# Altium integrated library Altium_WCAP-CSGP (rev20a).IntLib: 939 symbols (part 14 of 16)
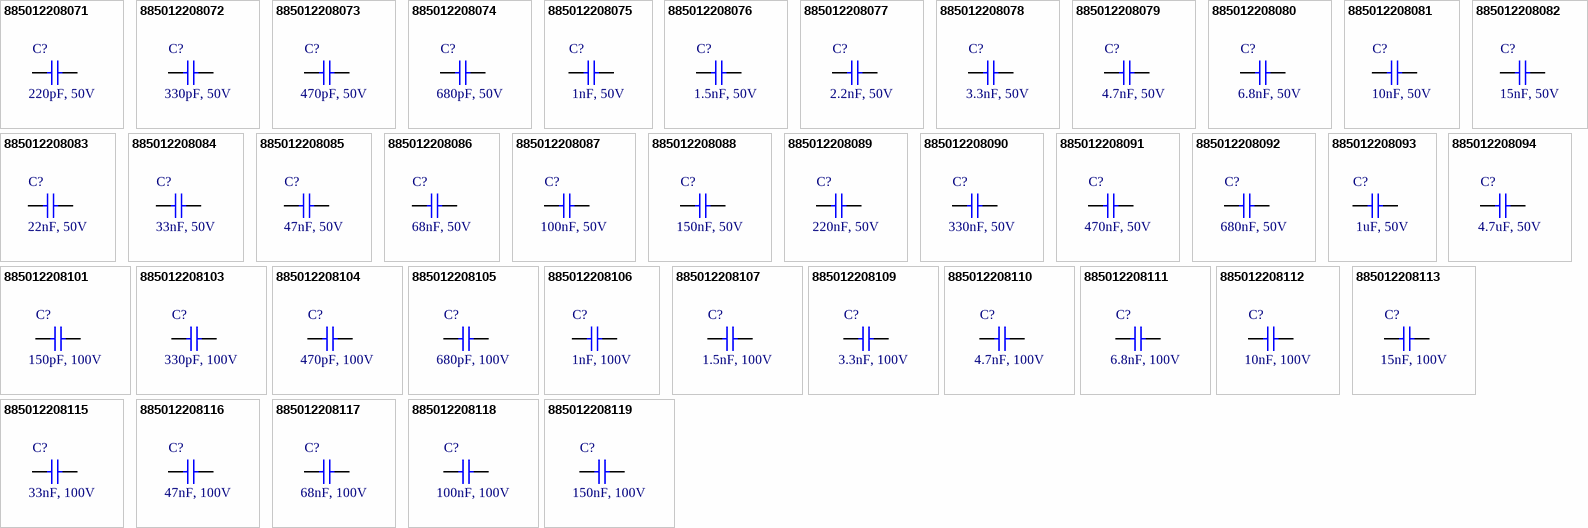
[diagram p40: symbols 885012208071 to 885012208119]

## 885012208088
designator C?, comment 150nF, 50V
WCAP-CSGP Multilayer Ceramic Chip Capacitor, General Purpose, size 1206, X7R, 150nF, 50V; Manufacturer Part Number: 885012208088; Manufacturer: Wurth Elektronik; Rated Voltage: 50VDC; Isolation Resistance: >=3.3GOhm; Capacitance Tolerance: +/-10%; Technical Reference: X7R1206154K050DFCT10000; ComponentLink1Description: Manufacturer; ComponentLink1URL: http://www.we-online.de; ComponentLink2Description: Datasheet; ComponentLink2URL: https://www.we-online.com/catalog/datasheet/885012208088.pdf; Operating Temperature: -55 to +125degC; Packaging: Tape and Reel; Published Date: May 2020; Ceramic Type: X7R; Dissipation Factor: =<2.5%; Height: 0.95mm; Mounting Technology: SMT; Size: 1206; Capacitance: 150nF
footprint WCAP-CSGP_1206_H=0.95mm
pins: 1, 2

## 885012208089
designator C?, comment 220nF, 50V
WCAP-CSGP Multilayer Ceramic Chip Capacitor, General Purpose, size 1206, X7R, 220nF, 50V; Manufacturer Part Number: 885012208089; Manufacturer: Wurth Elektronik; Rated Voltage: 50VDC; Isolation Resistance: >=2.3GOhm; Capacitance Tolerance: +/-10%; Technical Reference: X7R1206224K050DFCT10000; ComponentLink1Description: Manufacturer; ComponentLink1URL: http://www.we-online.de; ComponentLink2Description: Datasheet; ComponentLink2URL: https://www.we-online.com/catalog/datasheet/885012208089.pdf; Operating Temperature: -55 to +125degC; Packaging: Tape and Reel; Published Date: May 2020; Ceramic Type: X7R; Dissipation Factor: =<2.5%; Height: 0.95mm; Mounting Technology: SMT; Size: 1206; Capacitance: 220nF
footprint WCAP-CSGP_1206_H=0.95mm
pins: 1, 2

## 885012208090
designator C?, comment 330nF, 50V
WCAP-CSGP Multilayer Ceramic Chip Capacitor, General Purpose, size 1206, X7R, 330nF, 50V; Manufacturer Part Number: 885012208090; Manufacturer: Wurth Elektronik; Rated Voltage: 50VDC; Isolation Resistance: >=1.5GOhm; Capacitance Tolerance: +/-10%; Technical Reference: X7R1206334K050DFCT10000; ComponentLink1Description: Manufacturer; ComponentLink1URL: http://www.we-online.de; ComponentLink2Description: Datasheet; ComponentLink2URL: https://www.we-online.com/catalog/datasheet/885012208090.pdf; Operating Temperature: -55 to +125degC; Packaging: Tape and Reel; Published Date: May 2020; Ceramic Type: X7R; Dissipation Factor: =<2.5%; Height: 1.25mm; Mounting Technology: SMT; Size: 1206; Capacitance: 330nF
footprint WCAP-CSGP_1206_H=1.25mm
pins: 1, 2

## 885012208091
designator C?, comment 470nF, 50V
WCAP-CSGP Multilayer Ceramic Chip Capacitor, General Purpose, size 1206, X7R, 470nF, 50V; Manufacturer Part Number: 885012208091; Manufacturer: Wurth Elektronik; Rated Voltage: 50VDC; Isolation Resistance: >=1.1GOhm; Capacitance Tolerance: +/-10%; Technical Reference: X7R1206474K050DFCT10000; ComponentLink1Description: Manufacturer; ComponentLink1URL: http://www.we-online.de; ComponentLink2Description: Datasheet; ComponentLink2URL: https://www.we-online.com/catalog/datasheet/885012208091.pdf; Operating Temperature: -55 to +125degC; Packaging: Tape and Reel; Published Date: May 2020; Ceramic Type: X7R; Dissipation Factor: =<3%; Height: 1.6mm; Mounting Technology: SMT; Size: 1206; Capacitance: 470nF
footprint WCAP-CSGP_1206_H=1.6mm
pins: 1, 2

## 885012208092
designator C?, comment 680nF, 50V
WCAP-CSGP Multilayer Ceramic Chip Capacitor, General Purpose, size 1206, X7R, 680nF, 50V; Manufacturer Part Number: 885012208092; Manufacturer: Wurth Elektronik; Rated Voltage: 50VDC; Isolation Resistance: >=0.7GOhm; Capacitance Tolerance: +/-10%; Technical Reference: X7R1206684K050DFCT10000; ComponentLink1Description: Manufacturer; ComponentLink1URL: http://www.we-online.de; ComponentLink2Description: Datasheet; ComponentLink2URL: https://www.we-online.com/catalog/datasheet/885012208092.pdf; Operating Temperature: -55 to +125degC; Packaging: Tape and Reel; Published Date: May 2020; Ceramic Type: X7R; Dissipation Factor: =<3%; Height: 1.6mm; Mounting Technology: SMT; Size: 1206; Capacitance: 680nF
footprint WCAP-CSGP_1206_H=1.6mm
pins: 1, 2

## 885012208093
designator C?, comment 1uF, 50V
WCAP-CSGP Multilayer Ceramic Chip Capacitor, General Purpose, size 1206, X7R, 1uF, 50V; Manufacturer Part Number: 885012208093; Manufacturer: Wurth Elektronik; Rated Voltage: 50VDC; Isolation Resistance: >=0.5GOhm; Capacitance Tolerance: +/-10%; Technical Reference: X7R1206105K050DFCT10000; ComponentLink1Description: Manufacturer; ComponentLink1URL: http://www.we-online.de; ComponentLink2Description: Datasheet; ComponentLink2URL: https://www.we-online.com/catalog/datasheet/885012208093.pdf; Operating Temperature: -55 to +125degC; Packaging: Tape and Reel; Published Date: May 2020; Ceramic Type: X7R; Dissipation Factor: =<3%; Height: 1.6mm; Mounting Technology: SMT; Size: 1206; Capacitance: 1uF
footprint WCAP-CSGP_1206_H=1.6mm
pins: 1, 2

## 885012208094
designator C?, comment 4.7uF, 50V
WCAP-CSGP Multilayer Ceramic Chip Capacitor, General Purpose, size 1206, X7R, 4.7uF, 50V; Manufacturer Part Number: 885012208094; Manufacturer: Wurth Elektronik; Rated Voltage: 50VDC; Isolation Resistance: >=0.02GOhm; Capacitance Tolerance: +/-10%; Technical Reference: X7R1206475K050DFCT10000; ComponentLink1Description: Manufacturer; ComponentLink1URL: http://www.we-online.de; ComponentLink2Description: Datasheet; ComponentLink2URL: https://www.we-online.com/catalog/datasheet/885012208094.pdf; Operating Temperature: -55 to +125degC; Packaging: Tape and Reel; Published Date: May 2020; Ceramic Type: X7R; Dissipation Factor: =<10%; Height: 1.6mm; Mounting Technology: SMT; Size: 1206; Capacitance: 4.7uF
footprint WCAP-CSGP_1206_H=1.6mm
pins: 1, 2

## 885012208101
designator C?, comment 150pF, 100V
WCAP-CSGP Multilayer Ceramic Chip Capacitor, General Purpose, size 1206, X7R, 150pF, 100V; Manufacturer Part Number: 885012208101; Manufacturer: Wurth Elektronik; Rated Voltage: 100VDC; Isolation Resistance: >=10GOhm; Capacitance Tolerance: +/-10%; Technical Reference: X7R1206151K100DFCT10000; ComponentLink1Description: Manufacturer; ComponentLink1URL: http://www.we-online.de; ComponentLink2Description: Datasheet; ComponentLink2URL: https://www.we-online.com/catalog/datasheet/885012208101.pdf; Operating Temperature: -55 to +125degC; Packaging: Tape and Reel; Published Date: May 2020; Ceramic Type: X7R; Dissipation Factor: =<2.5%; Height: 0.8mm; Mounting Technology: SMT; Size: 1206; Capacitance: 150pF
footprint WCAP-CSGP_1206_H=0.8mm
pins: 1, 2

## 885012208103
designator C?, comment 330pF, 100V
WCAP-CSGP Multilayer Ceramic Chip Capacitor, General Purpose, size 1206, X7R, 330pF, 100V; Manufacturer Part Number: 885012208103; Manufacturer: Wurth Elektronik; Rated Voltage: 100VDC; Isolation Resistance: >=10GOhm; Capacitance Tolerance: +/-10%; Technical Reference: X7R1206331K100DFCT10000; ComponentLink1Description: Manufacturer; ComponentLink1URL: http://www.we-online.de; ComponentLink2Description: Datasheet; ComponentLink2URL: https://www.we-online.com/catalog/datasheet/885012208103.pdf; Operating Temperature: -55 to +125degC; Packaging: Tape and Reel; Published Date: May 2020; Ceramic Type: X7R; Dissipation Factor: =<2.5%; Height: 0.8mm; Mounting Technology: SMT; Size: 1206; Capacitance: 330pF
footprint WCAP-CSGP_1206_H=0.8mm
pins: 1, 2

## 885012208104
designator C?, comment 470pF, 100V
WCAP-CSGP Multilayer Ceramic Chip Capacitor, General Purpose, size 1206, X7R, 470pF, 100V; Manufacturer Part Number: 885012208104; Manufacturer: Wurth Elektronik; Rated Voltage: 100VDC; Isolation Resistance: >=10GOhm; Capacitance Tolerance: +/-10%; Technical Reference: X7R1206471K100DFCT10000; ComponentLink1Description: Manufacturer; ComponentLink1URL: http://www.we-online.de; ComponentLink2Description: Datasheet; ComponentLink2URL: https://www.we-online.com/catalog/datasheet/885012208104.pdf; Operating Temperature: -55 to +125degC; Packaging: Tape and Reel; Published Date: May 2020; Ceramic Type: X7R; Dissipation Factor: =<2.5%; Height: 0.8mm; Mounting Technology: SMT; Size: 1206; Capacitance: 470pF
footprint WCAP-CSGP_1206_H=0.8mm
pins: 1, 2

## 885012208105
designator C?, comment 680pF, 100V
WCAP-CSGP Multilayer Ceramic Chip Capacitor, General Purpose, size 1206, X7R, 680pF, 100V; Manufacturer Part Number: 885012208105; Manufacturer: Wurth Elektronik; Rated Voltage: 100VDC; Isolation Resistance: >=10GOhm; Capacitance Tolerance: +/-10%; Technical Reference: X7R1206681K100DFCT10000; ComponentLink1Description: Manufacturer; ComponentLink1URL: http://www.we-online.de; ComponentLink2Description: Datasheet; ComponentLink2URL: https://www.we-online.com/catalog/datasheet/885012208105.pdf; Operating Temperature: -55 to +125degC; Packaging: Tape and Reel; Published Date: May 2020; Ceramic Type: X7R; Dissipation Factor: =<2.5%; Height: 0.8mm; Mounting Technology: SMT; Size: 1206; Capacitance: 680pF
footprint WCAP-CSGP_1206_H=0.8mm
pins: 1, 2

## 885012208106
designator C?, comment 1nF, 100V
WCAP-CSGP Multilayer Ceramic Chip Capacitor, General Purpose, size 1206, X7R, 1nF, 100V; Manufacturer Part Number: 885012208106; Manufacturer: Wurth Elektronik; Rated Voltage: 100VDC; Isolation Resistance: >=10GOhm; Capacitance Tolerance: +/-10%; Technical Reference: X7R1206102K100DFCT10000; ComponentLink1Description: Manufacturer; ComponentLink1URL: http://www.we-online.de; ComponentLink2Description: Datasheet; ComponentLink2URL: https://www.we-online.com/catalog/datasheet/885012208106.pdf; Operating Temperature: -55 to +125degC; Packaging: Tape and Reel; Published Date: May 2020; Ceramic Type: X7R; Dissipation Factor: =<2.5%; Height: 0.8mm; Mounting Technology: SMT; Size: 1206; Capacitance: 1nF
footprint WCAP-CSGP_1206_H=0.8mm
pins: 1, 2

## 885012208107
designator C?, comment 1.5nF, 100V
WCAP-CSGP Multilayer Ceramic Chip Capacitor, General Purpose, size 1206, X7R, 1.5nF, 100V; Manufacturer Part Number: 885012208107; Manufacturer: Wurth Elektronik; Rated Voltage: 100VDC; Isolation Resistance: >=10GOhm; Capacitance Tolerance: +/-10%; Technical Reference: X7R1206152K100DFCT10000; ComponentLink1Description: Manufacturer; ComponentLink1URL: http://www.we-online.de; ComponentLink2Description: Datasheet; ComponentLink2URL: https://www.we-online.com/catalog/datasheet/885012208107.pdf; Operating Temperature: -55 to +125degC; Packaging: Tape and Reel; Published Date: May 2020; Ceramic Type: X7R; Dissipation Factor: =<2.5%; Height: 0.8mm; Mounting Technology: SMT; Size: 1206; Capacitance: 1.5nF
footprint WCAP-CSGP_1206_H=0.8mm
pins: 1, 2

## 885012208109
designator C?, comment 3.3nF, 100V
WCAP-CSGP Multilayer Ceramic Chip Capacitor, General Purpose, size 1206, X7R, 3.3nF, 100V; Manufacturer Part Number: 885012208109; Manufacturer: Wurth Elektronik; Rated Voltage: 100VDC; Isolation Resistance: >=10GOhm; Capacitance Tolerance: +/-10%; Technical Reference: X7R1206332K100DFCT10000; ComponentLink1Description: Manufacturer; ComponentLink1URL: http://www.we-online.de; ComponentLink2Description: Datasheet; ComponentLink2URL: https://www.we-online.com/catalog/datasheet/885012208109.pdf; Operating Temperature: -55 to +125degC; Packaging: Tape and Reel; Published Date: May 2020; Ceramic Type: X7R; Dissipation Factor: =<2.5%; Height: 0.8mm; Mounting Technology: SMT; Size: 1206; Capacitance: 3.3nF
footprint WCAP-CSGP_1206_H=0.8mm
pins: 1, 2

## 885012208110
designator C?, comment 4.7nF, 100V
WCAP-CSGP Multilayer Ceramic Chip Capacitor, General Purpose, size 1206, X7R, 4.7nF, 100V; Manufacturer Part Number: 885012208110; Manufacturer: Wurth Elektronik; Rated Voltage: 100VDC; Isolation Resistance: >=10GOhm; Capacitance Tolerance: +/-10%; Technical Reference: X7R1206472K100DFCT10000; ComponentLink1Description: Manufacturer; ComponentLink1URL: http://www.we-online.de; ComponentLink2Description: Datasheet; ComponentLink2URL: https://www.we-online.com/catalog/datasheet/885012208110.pdf; Operating Temperature: -55 to +125degC; Packaging: Tape and Reel; Published Date: May 2020; Ceramic Type: X7R; Dissipation Factor: =<2.5%; Height: 0.8mm; Mounting Technology: SMT; Size: 1206; Capacitance: 4.7nF
footprint WCAP-CSGP_1206_H=0.8mm
pins: 1, 2

## 885012208111
designator C?, comment 6.8nF, 100V
WCAP-CSGP Multilayer Ceramic Chip Capacitor, General Purpose, size 1206, X7R, 6.8nF, 100V; Manufacturer Part Number: 885012208111; Manufacturer: Wurth Elektronik; Rated Voltage: 100VDC; Isolation Resistance: >=10GOhm; Capacitance Tolerance: +/-10%; Technical Reference: X7R1206682K100DFCT10000; ComponentLink1Description: Manufacturer; ComponentLink1URL: http://www.we-online.de; ComponentLink2Description: Datasheet; ComponentLink2URL: https://www.we-online.com/catalog/datasheet/885012208111.pdf; Operating Temperature: -55 to +125degC; Packaging: Tape and Reel; Published Date: May 2020; Ceramic Type: X7R; Dissipation Factor: =<2.5%; Height: 0.8mm; Mounting Technology: SMT; Size: 1206; Capacitance: 6.8nF
footprint WCAP-CSGP_1206_H=0.8mm
pins: 1, 2

## 885012208112
designator C?, comment 10nF, 100V
WCAP-CSGP Multilayer Ceramic Chip Capacitor, General Purpose, size 1206, X7R, 10nF, 100V; Manufacturer Part Number: 885012208112; Manufacturer: Wurth Elektronik; Rated Voltage: 100VDC; Isolation Resistance: >=10GOhm; Capacitance Tolerance: +/-10%; Technical Reference: X7R1206103K100DFCT10000; ComponentLink1Description: Manufacturer; ComponentLink1URL: http://www.we-online.de; ComponentLink2Description: Datasheet; ComponentLink2URL: https://www.we-online.com/catalog/datasheet/885012208112.pdf; Operating Temperature: -55 to +125degC; Packaging: Tape and Reel; Published Date: May 2020; Ceramic Type: X7R; Dissipation Factor: =<2.5%; Height: 0.8mm; Mounting Technology: SMT; Size: 1206; Capacitance: 10nF
footprint WCAP-CSGP_1206_H=0.8mm
pins: 1, 2

## 885012208113
designator C?, comment 15nF, 100V
WCAP-CSGP Multilayer Ceramic Chip Capacitor, General Purpose, size 1206, X7R, 15nF, 100V; Manufacturer Part Number: 885012208113; Manufacturer: Wurth Elektronik; Rated Voltage: 100VDC; Isolation Resistance: >=6.7GOhm; Capacitance Tolerance: +/-10%; Technical Reference: X7R1206153K100DFCT10000; ComponentLink1Description: Manufacturer; ComponentLink1URL: http://www.we-online.de; ComponentLink2Description: Datasheet; ComponentLink2URL: https://www.we-online.com/catalog/datasheet/885012208113.pdf; Operating Temperature: -55 to +125degC; Packaging: Tape and Reel; Published Date: May 2020; Ceramic Type: X7R; Dissipation Factor: =<2.5%; Height: 0.8mm; Mounting Technology: SMT; Size: 1206; Capacitance: 15nF
footprint WCAP-CSGP_1206_H=0.8mm
pins: 1, 2

## 885012208115
designator C?, comment 33nF, 100V
WCAP-CSGP Multilayer Ceramic Chip Capacitor, General Purpose, size 1206, X7R, 33nF, 100V; Manufacturer Part Number: 885012208115; Manufacturer: Wurth Elektronik; Rated Voltage: 100VDC; Isolation Resistance: >=3GOhm; Capacitance Tolerance: +/-10%; Technical Reference: X7R1206333K100DFCT10000; ComponentLink1Description: Manufacturer; ComponentLink1URL: http://www.we-online.de; ComponentLink2Description: Datasheet; ComponentLink2URL: https://www.we-online.com/catalog/datasheet/885012208115.pdf; Operating Temperature: -55 to +125degC; Packaging: Tape and Reel; Published Date: May 2020; Ceramic Type: X7R; Dissipation Factor: =<2.5%; Height: 0.8mm; Mounting Technology: SMT; Size: 1206; Capacitance: 33nF
footprint WCAP-CSGP_1206_H=0.8mm
pins: 1, 2

## 885012208116
designator C?, comment 47nF, 100V
WCAP-CSGP Multilayer Ceramic Chip Capacitor, General Purpose, size 1206, X7R, 47nF, 100V; Manufacturer Part Number: 885012208116; Manufacturer: Wurth Elektronik; Rated Voltage: 100VDC; Isolation Resistance: >=2.1GOhm; Capacitance Tolerance: +/-10%; Technical Reference: X7R1206473K100DFCT10000; ComponentLink1Description: Manufacturer; ComponentLink1URL: http://www.we-online.de; ComponentLink2Description: Datasheet; ComponentLink2URL: https://www.we-online.com/catalog/datasheet/885012208116.pdf; Operating Temperature: -55 to +125degC; Packaging: Tape and Reel; Published Date: May 2020; Ceramic Type: X7R; Dissipation Factor: =<2.5%; Height: 0.8mm; Mounting Technology: SMT; Size: 1206; Capacitance: 47nF
footprint WCAP-CSGP_1206_H=0.8mm
pins: 1, 2

## 885012208117
designator C?, comment 68nF, 100V
WCAP-CSGP Multilayer Ceramic Chip Capacitor, General Purpose, size 1206, X7R, 68nF, 100V; Manufacturer Part Number: 885012208117; Manufacturer: Wurth Elektronik; Rated Voltage: 100VDC; Isolation Resistance: >=1.5GOhm; Capacitance Tolerance: +/-10%; Technical Reference: X7R1206683K100DFCT10000; ComponentLink1Description: Manufacturer; ComponentLink1URL: http://www.we-online.de; ComponentLink2Description: Datasheet; ComponentLink2URL: https://www.we-online.com/catalog/datasheet/885012208117.pdf; Operating Temperature: -55 to +125degC; Packaging: Tape and Reel; Published Date: May 2020; Ceramic Type: X7R; Dissipation Factor: =<2.5%; Height: 0.8mm; Mounting Technology: SMT; Size: 1206; Capacitance: 68nF
footprint WCAP-CSGP_1206_H=0.8mm
pins: 1, 2

## 885012208118
designator C?, comment 100nF, 100V
WCAP-CSGP Multilayer Ceramic Chip Capacitor, General Purpose, size 1206, X7R, 100nF, 100V; Manufacturer Part Number: 885012208118; Manufacturer: Wurth Elektronik; Rated Voltage: 100VDC; Isolation Resistance: >=1GOhm; Capacitance Tolerance: +/-10%; Technical Reference: X7R1206104K100DFCT10000; ComponentLink1Description: Manufacturer; ComponentLink1URL: http://www.we-online.de; ComponentLink2Description: Datasheet; ComponentLink2URL: https://www.we-online.com/catalog/datasheet/885012208118.pdf; Operating Temperature: -55 to +125degC; Packaging: Tape and Reel; Published Date: May 2020; Ceramic Type: X7R; Dissipation Factor: =<2.5%; Height: 1.25mm; Mounting Technology: SMT; Size: 1206; Capacitance: 100nF
footprint WCAP-CSGP_1206_H=1.25mm
pins: 1, 2

## 885012208119
designator C?, comment 150nF, 100V
WCAP-CSGP Multilayer Ceramic Chip Capacitor, General Purpose, size 1206, X7R, 150nF, 100V; Manufacturer Part Number: 885012208119; Manufacturer: Wurth Elektronik; Rated Voltage: 100VDC; Isolation Resistance: >=0.7GOhm; Capacitance Tolerance: +/-10%; Technical Reference: X7R1206154K100DFCT10000; ComponentLink1Description: Manufacturer; ComponentLink1URL: http://www.we-online.de; ComponentLink2Description: Datasheet; ComponentLink2URL: https://www.we-online.com/catalog/datasheet/885012208119.pdf; Operating Temperature: -55 to +125degC; Packaging: Tape and Reel; Published Date: May 2020; Ceramic Type: X7R; Dissipation Factor: =<2.5%; Height: 1.6mm; Mounting Technology: SMT; Size: 1206; Capacitance: 150nF
footprint WCAP-CSGP_1206_H=1.6mm
pins: 1, 2

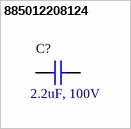
[diagram p22: symbol 885012208124]

## 885012208124
designator C?, comment 2.2uF, 100V
WCAP-CSGP Multilayer Ceramic Chip Capacitor, General Purpose, size 1206, X7R, 2.2uF, 100V; Manufacturer Part Number: 885012208124; Manufacturer: Wurth Elektronik; Rated Voltage: 100VDC; Isolation Resistance: >=0.05GOhm; Capacitance Tolerance: +/-10%; Technical Reference: X7R1206225K100DFCT10000; ComponentLink1Description: Manufacturer; ComponentLink1URL: http://www.we-online.de; ComponentLink2Description: Datasheet; ComponentLink2URL: https://www.we-online.com/catalog/datasheet/885012208124.pdf; Operating Temperature: -55 to +125degC; Packaging: Tape and Reel; Published Date: May 2020; Ceramic Type: X7R; Dissipation Factor: =<5%; Height: 1.6mm; Mounting Technology: SMT; Size: 1206; Capacitance: 2.2uF
footprint WCAP-CSGP_1206_H=1.6mm
pins: 1, 2


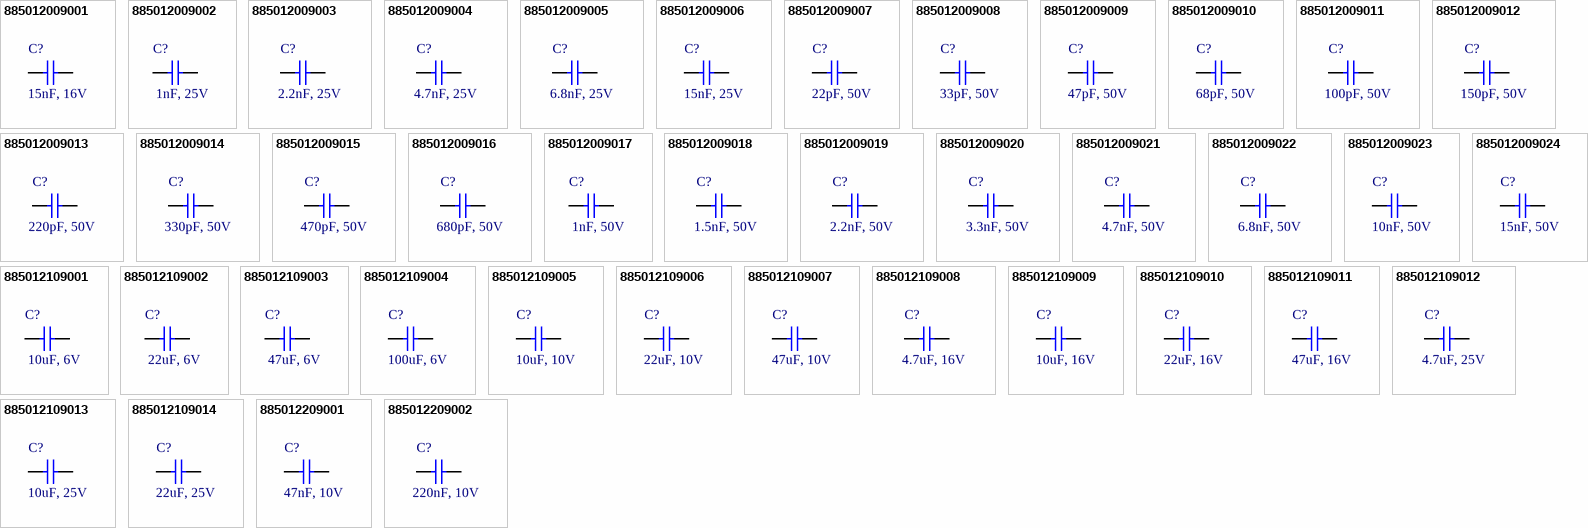
[diagram p23: symbols 885012009001 to 885012209002]

## 885012009001
designator C?, comment 15nF, 16V
WCAP-CSGP Multilayer Ceramic Chip Capacitor, General Purpose, size 1210, NP0, 15nF, 16V; Manufacturer Part Number: 885012009001; Manufacturer: Wurth Elektronik; Rated Voltage: 16VDC; Isolation Resistance: >=10GOhm; Capacitance Tolerance: +/-5%; Dissipation Factor: Q>=1000; Technical Reference: NP01210153J016DFCT10000; ComponentLink1Description: Manufacturer; ComponentLink1URL: http://www.we-online.de; ComponentLink2Description: Datasheet; ComponentLink2URL: https://www.we-online.com/catalog/datasheet/885012009001.pdf; Operating Temperature: -55 to +125degC; Packaging: Tape and Reel; Published Date: May 2020; Ceramic Type: NP0; Height: 0.95mm; Mounting Technology: SMT; Size: 1210; Capacitance: 15nF
footprint WCAP-CSGP_1210_H=0.95mm
pins: 1, 2

## 885012009002
designator C?, comment 1nF, 25V
WCAP-CSGP Multilayer Ceramic Chip Capacitor, General Purpose, size 1210, NP0, 1nF, 25V; Manufacturer Part Number: 885012009002; Manufacturer: Wurth Elektronik; Rated Voltage: 25VDC; Isolation Resistance: >=10GOhm; Capacitance Tolerance: +/-5%; Dissipation Factor: Q>=1000; Technical Reference: NP01210102J025DFCT10000; ComponentLink1Description: Manufacturer; ComponentLink1URL: http://www.we-online.de; ComponentLink2Description: Datasheet; ComponentLink2URL: https://www.we-online.com/catalog/datasheet/885012009002.pdf; Operating Temperature: -55 to +125degC; Packaging: Tape and Reel; Published Date: May 2020; Ceramic Type: NP0; Height: 0.95mm; Mounting Technology: SMT; Size: 1210; Capacitance: 1nF
footprint WCAP-CSGP_1210_H=0.95mm
pins: 1, 2

## 885012009003
designator C?, comment 2.2nF, 25V
WCAP-CSGP Multilayer Ceramic Chip Capacitor, General Purpose, size 1210, NP0, 2.2nF, 25V; Manufacturer Part Number: 885012009003; Manufacturer: Wurth Elektronik; Rated Voltage: 25VDC; Isolation Resistance: >=10GOhm; Capacitance Tolerance: +/-5%; Dissipation Factor: Q>=1000; Technical Reference: NP01210222J025DFCT10000; ComponentLink1Description: Manufacturer; ComponentLink1URL: http://www.we-online.de; ComponentLink2Description: Datasheet; ComponentLink2URL: https://www.we-online.com/catalog/datasheet/885012009003.pdf; Operating Temperature: -55 to +125degC; Packaging: Tape and Reel; Published Date: May 2020; Ceramic Type: NP0; Height: 0.95mm; Mounting Technology: SMT; Size: 1210; Capacitance: 2.2nF
footprint WCAP-CSGP_1210_H=0.95mm
pins: 1, 2

## 885012009004
designator C?, comment 4.7nF, 25V
WCAP-CSGP Multilayer Ceramic Chip Capacitor, General Purpose, size 1210, NP0, 4.7nF, 25V; Manufacturer Part Number: 885012009004; Manufacturer: Wurth Elektronik; Rated Voltage: 25VDC; Isolation Resistance: >=10GOhm; Capacitance Tolerance: +/-5%; Dissipation Factor: Q>=1000; Technical Reference: NP01210472J025DFCT10000; ComponentLink1Description: Manufacturer; ComponentLink1URL: http://www.we-online.de; ComponentLink2Description: Datasheet; ComponentLink2URL: https://www.we-online.com/catalog/datasheet/885012009004.pdf; Operating Temperature: -55 to +125degC; Packaging: Tape and Reel; Published Date: May 2020; Ceramic Type: NP0; Height: 0.95mm; Mounting Technology: SMT; Size: 1210; Capacitance: 4.7nF
footprint WCAP-CSGP_1210_H=0.95mm
pins: 1, 2

## 885012009005
designator C?, comment 6.8nF, 25V
WCAP-CSGP Multilayer Ceramic Chip Capacitor, General Purpose, size 1210, NP0, 6.8nF, 25V; Manufacturer Part Number: 885012009005; Manufacturer: Wurth Elektronik; Rated Voltage: 25VDC; Isolation Resistance: >=10GOhm; Capacitance Tolerance: +/-5%; Dissipation Factor: Q>=1000; Technical Reference: NP01210682J025DFCT10000; ComponentLink1Description: Manufacturer; ComponentLink1URL: http://www.we-online.de; ComponentLink2Description: Datasheet; ComponentLink2URL: https://www.we-online.com/catalog/datasheet/885012009005.pdf; Operating Temperature: -55 to +125degC; Packaging: Tape and Reel; Published Date: May 2020; Ceramic Type: NP0; Height: 0.95mm; Mounting Technology: SMT; Size: 1210; Capacitance: 6.8nF
footprint WCAP-CSGP_1210_H=0.95mm
pins: 1, 2

## 885012009006
designator C?, comment 15nF, 25V
WCAP-CSGP Multilayer Ceramic Chip Capacitor, General Purpose, size 1210, NP0, 15nF, 25V; Manufacturer Part Number: 885012009006; Manufacturer: Wurth Elektronik; Rated Voltage: 25VDC; Isolation Resistance: >=10GOhm; Capacitance Tolerance: +/-5%; Dissipation Factor: Q>=1000; Technical Reference: NP01210153J025DFCT10000; ComponentLink1Description: Manufacturer; ComponentLink1URL: http://www.we-online.de; ComponentLink2Description: Datasheet; ComponentLink2URL: https://www.we-online.com/catalog/datasheet/885012009006.pdf; Operating Temperature: -55 to +125degC; Packaging: Tape and Reel; Published Date: May 2020; Ceramic Type: NP0; Height: 1.25mm; Mounting Technology: SMT; Size: 1210; Capacitance: 15nF
footprint WCAP-CSGP_1210_H=1.25mm
pins: 1, 2

## 885012009007
designator C?, comment 22pF, 50V
WCAP-CSGP Multilayer Ceramic Chip Capacitor, General Purpose, size 1210, NP0, 22pF, 50V; Manufacturer Part Number: 885012009007; Manufacturer: Wurth Elektronik; Rated Voltage: 50VDC; Isolation Resistance: >=10GOhm; Capacitance Tolerance: +/-5%; Dissipation Factor: Q>=400+20C; Technical Reference: NP01210220J050DFCT10000; ComponentLink1Description: Manufacturer; ComponentLink1URL: http://www.we-online.de; ComponentLink2Description: Datasheet; ComponentLink2URL: https://www.we-online.com/catalog/datasheet/885012009007.pdf; Operating Temperature: -55 to +125degC; Packaging: Tape and Reel; Published Date: May 2020; Ceramic Type: NP0; Height: 0.95mm; Mounting Technology: SMT; Size: 1210; Capacitance: 22pF
footprint WCAP-CSGP_1210_H=0.95mm
pins: 1, 2

## 885012009008
designator C?, comment 33pF, 50V
WCAP-CSGP Multilayer Ceramic Chip Capacitor, General Purpose, size 1210, NP0, 33pF, 50V; Manufacturer Part Number: 885012009008; Manufacturer: Wurth Elektronik; Rated Voltage: 50VDC; Isolation Resistance: >=10GOhm; Capacitance Tolerance: +/-5%; Dissipation Factor: Q>=1000; Technical Reference: NP01210330J050DFCT10000; ComponentLink1Description: Manufacturer; ComponentLink1URL: http://www.we-online.de; ComponentLink2Description: Datasheet; ComponentLink2URL: https://www.we-online.com/catalog/datasheet/885012009008.pdf; Operating Temperature: -55 to +125degC; Packaging: Tape and Reel; Published Date: May 2020; Ceramic Type: NP0; Height: 0.95mm; Mounting Technology: SMT; Size: 1210; Capacitance: 33pF
footprint WCAP-CSGP_1210_H=0.95mm
pins: 1, 2

## 885012009009
designator C?, comment 47pF, 50V
WCAP-CSGP Multilayer Ceramic Chip Capacitor, General Purpose, size 1210, NP0, 47pF, 50V; Manufacturer Part Number: 885012009009; Manufacturer: Wurth Elektronik; Rated Voltage: 50VDC; Isolation Resistance: >=10GOhm; Capacitance Tolerance: +/-5%; Dissipation Factor: Q>=1000; Technical Reference: NP01210470J050DFCT10000; ComponentLink1Description: Manufacturer; ComponentLink1URL: http://www.we-online.de; ComponentLink2Description: Datasheet; ComponentLink2URL: https://www.we-online.com/catalog/datasheet/885012009009.pdf; Operating Temperature: -55 to +125degC; Packaging: Tape and Reel; Published Date: May 2020; Ceramic Type: NP0; Height: 0.95mm; Mounting Technology: SMT; Size: 1210; Capacitance: 47pF
footprint WCAP-CSGP_1210_H=0.95mm
pins: 1, 2

## 885012009010
designator C?, comment 68pF, 50V
WCAP-CSGP Multilayer Ceramic Chip Capacitor, General Purpose, size 1210, NP0, 68pF, 50V; Manufacturer Part Number: 885012009010; Manufacturer: Wurth Elektronik; Rated Voltage: 50VDC; Isolation Resistance: >=10GOhm; Capacitance Tolerance: +/-5%; Dissipation Factor: Q>=1000; Technical Reference: NP01210680J050DFCT10000; ComponentLink1Description: Manufacturer; ComponentLink1URL: http://www.we-online.de; ComponentLink2Description: Datasheet; ComponentLink2URL: https://www.we-online.com/catalog/datasheet/885012009010.pdf; Operating Temperature: -55 to +125degC; Packaging: Tape and Reel; Published Date: May 2020; Ceramic Type: NP0; Height: 0.95mm; Mounting Technology: SMT; Size: 1210; Capacitance: 68pF
footprint WCAP-CSGP_1210_H=0.95mm
pins: 1, 2

## 885012009011
designator C?, comment 100pF, 50V
WCAP-CSGP Multilayer Ceramic Chip Capacitor, General Purpose, size 1210, NP0, 100pF, 50V; Manufacturer Part Number: 885012009011; Manufacturer: Wurth Elektronik; Rated Voltage: 50VDC; Isolation Resistance: >=10GOhm; Capacitance Tolerance: +/-5%; Dissipation Factor: Q>=1000; Technical Reference: NP01210101J050DFCT10000; ComponentLink1Description: Manufacturer; ComponentLink1URL: http://www.we-online.de; ComponentLink2Description: Datasheet; ComponentLink2URL: https://www.we-online.com/catalog/datasheet/885012009011.pdf; Operating Temperature: -55 to +125degC; Packaging: Tape and Reel; Published Date: May 2020; Ceramic Type: NP0; Height: 0.95mm; Mounting Technology: SMT; Size: 1210; Capacitance: 100pF
footprint WCAP-CSGP_1210_H=0.95mm
pins: 1, 2

## 885012009012
designator C?, comment 150pF, 50V
WCAP-CSGP Multilayer Ceramic Chip Capacitor, General Purpose, size 1210, NP0, 150pF, 50V; Manufacturer Part Number: 885012009012; Manufacturer: Wurth Elektronik; Rated Voltage: 50VDC; Isolation Resistance: >=10GOhm; Capacitance Tolerance: +/-5%; Dissipation Factor: Q>=1000; Technical Reference: NP01210151J050DFCT10000; ComponentLink1Description: Manufacturer; ComponentLink1URL: http://www.we-online.de; ComponentLink2Description: Datasheet; ComponentLink2URL: https://www.we-online.com/catalog/datasheet/885012009012.pdf; Operating Temperature: -55 to +125degC; Packaging: Tape and Reel; Published Date: May 2020; Ceramic Type: NP0; Height: 0.95mm; Mounting Technology: SMT; Size: 1210; Capacitance: 150pF
footprint WCAP-CSGP_1210_H=0.95mm
pins: 1, 2

## 885012009013
designator C?, comment 220pF, 50V
WCAP-CSGP Multilayer Ceramic Chip Capacitor, General Purpose, size 1210, NP0, 220pF, 50V; Manufacturer Part Number: 885012009013; Manufacturer: Wurth Elektronik; Rated Voltage: 50VDC; Isolation Resistance: >=10GOhm; Capacitance Tolerance: +/-5%; Dissipation Factor: Q>=1000; Technical Reference: NP01210221J050DFCT10000; ComponentLink1Description: Manufacturer; ComponentLink1URL: http://www.we-online.de; ComponentLink2Description: Datasheet; ComponentLink2URL: https://www.we-online.com/catalog/datasheet/885012009013.pdf; Operating Temperature: -55 to +125degC; Packaging: Tape and Reel; Published Date: May 2020; Ceramic Type: NP0; Height: 0.95mm; Mounting Technology: SMT; Size: 1210; Capacitance: 220pF
footprint WCAP-CSGP_1210_H=0.95mm
pins: 1, 2

## 885012009014
designator C?, comment 330pF, 50V
WCAP-CSGP Multilayer Ceramic Chip Capacitor, General Purpose, size 1210, NP0, 330pF, 50V; Manufacturer Part Number: 885012009014; Manufacturer: Wurth Elektronik; Rated Voltage: 50VDC; Isolation Resistance: >=10GOhm; Capacitance Tolerance: +/-5%; Dissipation Factor: Q>=1000; Technical Reference: NP01210331J050DFCT10000; ComponentLink1Description: Manufacturer; ComponentLink1URL: http://www.we-online.de; ComponentLink2Description: Datasheet; ComponentLink2URL: https://www.we-online.com/catalog/datasheet/885012009014.pdf; Operating Temperature: -55 to +125degC; Packaging: Tape and Reel; Published Date: May 2020; Ceramic Type: NP0; Height: 0.95mm; Mounting Technology: SMT; Size: 1210; Capacitance: 330pF
footprint WCAP-CSGP_1210_H=0.95mm
pins: 1, 2

## 885012009015
designator C?, comment 470pF, 50V
WCAP-CSGP Multilayer Ceramic Chip Capacitor, General Purpose, size 1210, NP0, 470pF, 50V; Manufacturer Part Number: 885012009015; Manufacturer: Wurth Elektronik; Rated Voltage: 50VDC; Isolation Resistance: >=10GOhm; Capacitance Tolerance: +/-5%; Dissipation Factor: Q>=1000; Technical Reference: NP01210471J050DFCT10000; ComponentLink1Description: Manufacturer; ComponentLink1URL: http://www.we-online.de; ComponentLink2Description: Datasheet; ComponentLink2URL: https://www.we-online.com/catalog/datasheet/885012009015.pdf; Operating Temperature: -55 to +125degC; Packaging: Tape and Reel; Published Date: May 2020; Ceramic Type: NP0; Height: 0.95mm; Mounting Technology: SMT; Size: 1210; Capacitance: 470pF
footprint WCAP-CSGP_1210_H=0.95mm
pins: 1, 2

## 885012009016
designator C?, comment 680pF, 50V
WCAP-CSGP Multilayer Ceramic Chip Capacitor, General Purpose, size 1210, NP0, 680pF, 50V; Manufacturer Part Number: 885012009016; Manufacturer: Wurth Elektronik; Rated Voltage: 50VDC; Isolation Resistance: >=10GOhm; Capacitance Tolerance: +/-5%; Dissipation Factor: Q>=1000; Technical Reference: NP01210681J050DFCT10000; ComponentLink1Description: Manufacturer; ComponentLink1URL: http://www.we-online.de; ComponentLink2Description: Datasheet; ComponentLink2URL: https://www.we-online.com/catalog/datasheet/885012009016.pdf; Operating Temperature: -55 to +125degC; Packaging: Tape and Reel; Published Date: May 2020; Ceramic Type: NP0; Height: 0.95mm; Mounting Technology: SMT; Size: 1210; Capacitance: 680pF
footprint WCAP-CSGP_1210_H=0.95mm
pins: 1, 2

## 885012009017
designator C?, comment 1nF, 50V
WCAP-CSGP Multilayer Ceramic Chip Capacitor, General Purpose, size 1210, NP0, 1nF, 50V; Manufacturer Part Number: 885012009017; Manufacturer: Wurth Elektronik; Rated Voltage: 50VDC; Isolation Resistance: >=10GOhm; Capacitance Tolerance: +/-5%; Dissipation Factor: Q>=1000; Technical Reference: NP01210102J050DFCT10000; ComponentLink1Description: Manufacturer; ComponentLink1URL: http://www.we-online.de; ComponentLink2Description: Datasheet; ComponentLink2URL: https://www.we-online.com/catalog/datasheet/885012009017.pdf; Operating Temperature: -55 to +125degC; Packaging: Tape and Reel; Published Date: May 2020; Ceramic Type: NP0; Height: 0.95mm; Mounting Technology: SMT; Size: 1210; Capacitance: 1nF
footprint WCAP-CSGP_1210_H=0.95mm
pins: 1, 2

## 885012009018
designator C?, comment 1.5nF, 50V
WCAP-CSGP Multilayer Ceramic Chip Capacitor, General Purpose, size 1210, NP0, 1.5nF, 50V; Manufacturer Part Number: 885012009018; Manufacturer: Wurth Elektronik; Rated Voltage: 50VDC; Isolation Resistance: >=10GOhm; Capacitance Tolerance: +/-5%; Dissipation Factor: Q>=1000; Technical Reference: NP01210152J050DFCT10000; ComponentLink1Description: Manufacturer; ComponentLink1URL: http://www.we-online.de; ComponentLink2Description: Datasheet; ComponentLink2URL: https://www.we-online.com/catalog/datasheet/885012009018.pdf; Operating Temperature: -55 to +125degC; Packaging: Tape and Reel; Published Date: May 2020; Ceramic Type: NP0; Height: 0.95mm; Mounting Technology: SMT; Size: 1210; Capacitance: 1.5nF
footprint WCAP-CSGP_1210_H=0.95mm
pins: 1, 2

## 885012009019
designator C?, comment 2.2nF, 50V
WCAP-CSGP Multilayer Ceramic Chip Capacitor, General Purpose, size 1210, NP0, 2.2nF, 50V; Manufacturer Part Number: 885012009019; Manufacturer: Wurth Elektronik; Rated Voltage: 50VDC; Isolation Resistance: >=10GOhm; Capacitance Tolerance: +/-5%; Dissipation Factor: Q>=1000; Technical Reference: NP01210222J050DFCT10000; ComponentLink1Description: Manufacturer; ComponentLink1URL: http://www.we-online.de; ComponentLink2Description: Datasheet; ComponentLink2URL: https://www.we-online.com/catalog/datasheet/885012009019.pdf; Operating Temperature: -55 to +125degC; Packaging: Tape and Reel; Published Date: May 2020; Ceramic Type: NP0; Height: 0.95mm; Mounting Technology: SMT; Size: 1210; Capacitance: 2.2nF
footprint WCAP-CSGP_1210_H=0.95mm
pins: 1, 2

## 885012009020
designator C?, comment 3.3nF, 50V
WCAP-CSGP Multilayer Ceramic Chip Capacitor, General Purpose, size 1210, NP0, 3.3nF, 50V; Manufacturer Part Number: 885012009020; Manufacturer: Wurth Elektronik; Rated Voltage: 50VDC; Isolation Resistance: >=10GOhm; Capacitance Tolerance: +/-5%; Dissipation Factor: Q>=1000; Technical Reference: NP01210332J050DFCT10000; ComponentLink1Description: Manufacturer; ComponentLink1URL: http://www.we-online.de; ComponentLink2Description: Datasheet; ComponentLink2URL: https://www.we-online.com/catalog/datasheet/885012009020.pdf; Operating Temperature: -55 to +125degC; Packaging: Tape and Reel; Published Date: May 2020; Ceramic Type: NP0; Height: 0.95mm; Mounting Technology: SMT; Size: 1210; Capacitance: 3.3nF
footprint WCAP-CSGP_1210_H=0.95mm
pins: 1, 2

## 885012009021
designator C?, comment 4.7nF, 50V
WCAP-CSGP Multilayer Ceramic Chip Capacitor, General Purpose, size 1210, NP0, 4.7nF, 50V; Manufacturer Part Number: 885012009021; Manufacturer: Wurth Elektronik; Rated Voltage: 50VDC; Isolation Resistance: >=10GOhm; Capacitance Tolerance: +/-5%; Dissipation Factor: Q>=1000; Technical Reference: NP01210472J050DFCT10000; ComponentLink1Description: Manufacturer; ComponentLink1URL: http://www.we-online.de; ComponentLink2Description: Datasheet; ComponentLink2URL: https://www.we-online.com/catalog/datasheet/885012009021.pdf; Operating Temperature: -55 to +125degC; Packaging: Tape and Reel; Published Date: May 2020; Ceramic Type: NP0; Height: 0.95mm; Mounting Technology: SMT; Size: 1210; Capacitance: 4.7nF
footprint WCAP-CSGP_1210_H=0.95mm
pins: 1, 2

## 885012009022
designator C?, comment 6.8nF, 50V
WCAP-CSGP Multilayer Ceramic Chip Capacitor, General Purpose, size 1210, NP0, 6.8nF, 50V; Manufacturer Part Number: 885012009022; Manufacturer: Wurth Elektronik; Rated Voltage: 50VDC; Isolation Resistance: >=10GOhm; Capacitance Tolerance: +/-5%; Dissipation Factor: Q>=1000; Technical Reference: NP01210682J050DFCT10000; ComponentLink1Description: Manufacturer; ComponentLink1URL: http://www.we-online.de; ComponentLink2Description: Datasheet; ComponentLink2URL: https://www.we-online.com/catalog/datasheet/885012009022.pdf; Operating Temperature: -55 to +125degC; Packaging: Tape and Reel; Published Date: May 2020; Ceramic Type: NP0; Height: 0.95mm; Mounting Technology: SMT; Size: 1210; Capacitance: 6.8nF
footprint WCAP-CSGP_1210_H=0.95mm
pins: 1, 2

## 885012009023
designator C?, comment 10nF, 50V
WCAP-CSGP Multilayer Ceramic Chip Capacitor, General Purpose, size 1210, NP0, 10nF, 50V; Manufacturer Part Number: 885012009023; Manufacturer: Wurth Elektronik; Rated Voltage: 50VDC; Isolation Resistance: >=10GOhm; Capacitance Tolerance: +/-5%; Dissipation Factor: Q>=1000; Technical Reference: NP01210103J050DFCT10000; ComponentLink1Description: Manufacturer; ComponentLink1URL: http://www.we-online.de; ComponentLink2Description: Datasheet; ComponentLink2URL: https://www.we-online.com/catalog/datasheet/885012009023.pdf; Operating Temperature: -55 to +125degC; Packaging: Tape and Reel; Published Date: May 2020; Ceramic Type: NP0; Height: 0.95mm; Mounting Technology: SMT; Size: 1210; Capacitance: 10nF
footprint WCAP-CSGP_1210_H=0.95mm
pins: 1, 2

## 885012009024
designator C?, comment 15nF, 50V
WCAP-CSGP Multilayer Ceramic Chip Capacitor, General Purpose, size 1210, NP0, 15nF, 50V; Manufacturer Part Number: 885012009024; Manufacturer: Wurth Elektronik; Rated Voltage: 50VDC; Isolation Resistance: >=10GOhm; Capacitance Tolerance: +/-5%; Dissipation Factor: Q>=1000; Technical Reference: NP01210153J050DFCT10000; ComponentLink1Description: Manufacturer; ComponentLink1URL: http://www.we-online.de; ComponentLink2Description: Datasheet; ComponentLink2URL: https://www.we-online.com/catalog/datasheet/885012009024.pdf; Operating Temperature: -55 to +125degC; Packaging: Tape and Reel; Published Date: May 2020; Ceramic Type: NP0; Height: 1.25mm; Mounting Technology: SMT; Size: 1210; Capacitance: 15nF
footprint WCAP-CSGP_1210_H=1.25mm
pins: 1, 2

## 885012109001
designator C?, comment 10uF, 6V
WCAP-CSGP Multilayer Ceramic Chip Capacitor, General Purpose, size 1210, X5R, 10uF, 6V; Manufacturer Part Number: 885012109001; Manufacturer: Wurth Elektronik; Rated Voltage: 6VDC; Isolation Resistance: >=0.01GOhm; Capacitance Tolerance: +/-20%; Technical Reference: X5R1210106M6R3DFCT10000; ComponentLink1Description: Manufacturer; ComponentLink1URL: http://www.we-online.de; ComponentLink2Description: Datasheet; ComponentLink2URL: https://www.we-online.com/catalog/datasheet/885012109001.pdf; Operating Temperature: -55 to +85degC; Packaging: Tape and Reel; Published Date: May 2020; Ceramic Type: X5R; Dissipation Factor: =<10%; Height: 2mm; Mounting Technology: SMT; Size: 1210; Capacitance: 10uF
footprint WCAP-CSGP_1210_H=2mm
pins: 1, 2

## 885012109002
designator C?, comment 22uF, 6V
WCAP-CSGP Multilayer Ceramic Chip Capacitor, General Purpose, size 1210, X5R, 22uF, 6V; Manufacturer Part Number: 885012109002; Manufacturer: Wurth Elektronik; Rated Voltage: 6VDC; Isolation Resistance: >=0.02GOhm; Capacitance Tolerance: +/-20%; Technical Reference: X5R1210226M6R3DFCT10000; ComponentLink1Description: Manufacturer; ComponentLink1URL: http://www.we-online.de; ComponentLink2Description: Datasheet; ComponentLink2URL: https://www.we-online.com/catalog/datasheet/885012109002.pdf; Operating Temperature: -55 to +85degC; Packaging: Tape and Reel; Published Date: May 2020; Ceramic Type: X5R; Dissipation Factor: =<5%; Height: 2.5mm; Mounting Technology: SMT; Size: 1210; Capacitance: 22uF
footprint WCAP-CSGP_1210_H=2.5mm
pins: 1, 2

## 885012109003
designator C?, comment 47uF, 6V
WCAP-CSGP Multilayer Ceramic Chip Capacitor, General Purpose, size 1210, X5R, 47uF, 6V; Manufacturer Part Number: 885012109003; Manufacturer: Wurth Elektronik; Rated Voltage: 6VDC; Isolation Resistance: >=0.002GOhm; Capacitance Tolerance: +/-20%; Technical Reference: X5R1210476M6R3DFCT10000; ComponentLink1Description: Manufacturer; ComponentLink1URL: http://www.we-online.de; ComponentLink2Description: Datasheet; ComponentLink2URL: https://www.we-online.com/catalog/datasheet/885012109003.pdf; Operating Temperature: -55 to +85degC; Packaging: Tape and Reel; Published Date: May 2020; Ceramic Type: X5R; Dissipation Factor: =<10%; Height: 2.5mm; Mounting Technology: SMT; Size: 1210; Capacitance: 47uF
footprint WCAP-CSGP_1210_H=2.5mm
pins: 1, 2

## 885012109004
designator C?, comment 100uF, 6V
WCAP-CSGP Multilayer Ceramic Chip Capacitor, General Purpose, size 1210, X5R, 100uF, 6V; Manufacturer Part Number: 885012109004; Manufacturer: Wurth Elektronik; Rated Voltage: 6VDC; Isolation Resistance: >=0.001GOhm; Capacitance Tolerance: +/-20%; Technical Reference: X5R1210107M6R3DFCT10000; ComponentLink1Description: Manufacturer; ComponentLink1URL: http://www.we-online.de; ComponentLink2Description: Datasheet; ComponentLink2URL: https://www.we-online.com/catalog/datasheet/885012109004.pdf; Operating Temperature: -55 to +85degC; Packaging: Tape and Reel; Published Date: May 2020; Ceramic Type: X5R; Dissipation Factor: =<10%; Height: 2.5mm; Mounting Technology: SMT; Size: 1210; Capacitance: 100uF
footprint WCAP-CSGP_1210_H=2.5mm
pins: 1, 2

## 885012109005
designator C?, comment 10uF, 10V
WCAP-CSGP Multilayer Ceramic Chip Capacitor, General Purpose, size 1210, X5R, 10uF, 10V; Manufacturer Part Number: 885012109005; Manufacturer: Wurth Elektronik; Rated Voltage: 10VDC; Isolation Resistance: >=0.05GOhm; Capacitance Tolerance: +/-20%; Technical Reference: X5R1210106M010DFCT10000; ComponentLink1Description: Manufacturer; ComponentLink1URL: http://www.we-online.de; ComponentLink2Description: Datasheet; ComponentLink2URL: https://www.we-online.com/catalog/datasheet/885012109005.pdf; Operating Temperature: -55 to +85degC; Packaging: Tape and Reel; Published Date: May 2020; Ceramic Type: X5R; Dissipation Factor: =<5%; Height: 2mm; Mounting Technology: SMT; Size: 1210; Capacitance: 10uF
footprint WCAP-CSGP_1210_H=2mm
pins: 1, 2

## 885012109006
designator C?, comment 22uF, 10V
WCAP-CSGP Multilayer Ceramic Chip Capacitor, General Purpose, size 1210, X5R, 22uF, 10V; Manufacturer Part Number: 885012109006; Manufacturer: Wurth Elektronik; Rated Voltage: 10VDC; Isolation Resistance: >=0.02GOhm; Capacitance Tolerance: +/-20%; Technical Reference: X5R1210226M010DFCT10000; ComponentLink1Description: Manufacturer; ComponentLink1URL: http://www.we-online.de; ComponentLink2Description: Datasheet; ComponentLink2URL: https://www.we-online.com/catalog/datasheet/885012109006.pdf; Operating Temperature: -55 to +85degC; Packaging: Tape and Reel; Published Date: May 2020; Ceramic Type: X5R; Dissipation Factor: =<5%; Height: 2.5mm; Mounting Technology: SMT; Size: 1210; Capacitance: 22uF
footprint WCAP-CSGP_1210_H=2.5mm
pins: 1, 2

## 885012109007
designator C?, comment 47uF, 10V
WCAP-CSGP Multilayer Ceramic Chip Capacitor, General Purpose, size 1210, X5R, 47uF, 10V; Manufacturer Part Number: 885012109007; Manufacturer: Wurth Elektronik; Rated Voltage: 10VDC; Isolation Resistance: >=0.002GOhm; Capacitance Tolerance: +/-20%; Technical Reference: X5R1210476M010DFCT10000; ComponentLink1Description: Manufacturer; ComponentLink1URL: http://www.we-online.de; ComponentLink2Description: Datasheet; ComponentLink2URL: https://www.we-online.com/catalog/datasheet/885012109007.pdf; Operating Temperature: -55 to +85degC; Packaging: Tape and Reel; Published Date: May 2020; Ceramic Type: X5R; Dissipation Factor: =<10%; Height: 2.5mm; Mounting Technology: SMT; Size: 1210; Capacitance: 47uF
footprint WCAP-CSGP_1210_H=2.5mm
pins: 1, 2

## 885012109008
designator C?, comment 4.7uF, 16V
WCAP-CSGP Multilayer Ceramic Chip Capacitor, General Purpose, size 1210, X5R, 4.7uF, 16V; Manufacturer Part Number: 885012109008; Manufacturer: Wurth Elektronik; Rated Voltage: 16VDC; Isolation Resistance: >=0.1GOhm; Capacitance Tolerance: +/-20%; Technical Reference: X5R1210475M016DFCT10000; ComponentLink1Description: Manufacturer; ComponentLink1URL: http://www.we-online.de; ComponentLink2Description: Datasheet; ComponentLink2URL: https://www.we-online.com/catalog/datasheet/885012109008.pdf; Operating Temperature: -55 to +85degC; Packaging: Tape and Reel; Published Date: May 2020; Ceramic Type: X5R; Dissipation Factor: =<5%; Height: 2mm; Mounting Technology: SMT; Size: 1210; Capacitance: 4.7uF
footprint WCAP-CSGP_1210_H=2mm
pins: 1, 2

## 885012109009
designator C?, comment 10uF, 16V
WCAP-CSGP Multilayer Ceramic Chip Capacitor, General Purpose, size 1210, X5R, 10uF, 16V; Manufacturer Part Number: 885012109009; Manufacturer: Wurth Elektronik; Rated Voltage: 16VDC; Isolation Resistance: >=0.05GOhm; Capacitance Tolerance: +/-20%; Technical Reference: X5R1210106M016DFCT10000; ComponentLink1Description: Manufacturer; ComponentLink1URL: http://www.we-online.de; ComponentLink2Description: Datasheet; ComponentLink2URL: https://www.we-online.com/catalog/datasheet/885012109009.pdf; Operating Temperature: -55 to +85degC; Packaging: Tape and Reel; Published Date: May 2020; Ceramic Type: X5R; Dissipation Factor: =<5%; Height: 2mm; Mounting Technology: SMT; Size: 1210; Capacitance: 10uF
footprint WCAP-CSGP_1210_H=2mm
pins: 1, 2

## 885012109010
designator C?, comment 22uF, 16V
WCAP-CSGP Multilayer Ceramic Chip Capacitor, General Purpose, size 1210, X5R, 22uF, 16V; Manufacturer Part Number: 885012109010; Manufacturer: Wurth Elektronik; Rated Voltage: 16VDC; Isolation Resistance: >=0.02GOhm; Capacitance Tolerance: +/-20%; Technical Reference: X5R1210226M016DFCT10000; ComponentLink1Description: Manufacturer; ComponentLink1URL: http://www.we-online.de; ComponentLink2Description: Datasheet; ComponentLink2URL: https://www.we-online.com/catalog/datasheet/885012109010.pdf; Operating Temperature: -55 to +85degC; Packaging: Tape and Reel; Published Date: May 2020; Ceramic Type: X5R; Dissipation Factor: =<5%; Height: 2.5mm; Mounting Technology: SMT; Size: 1210; Capacitance: 22uF
footprint WCAP-CSGP_1210_H=2.5mm
pins: 1, 2

## 885012109011
designator C?, comment 47uF, 16V
WCAP-CSGP Multilayer Ceramic Chip Capacitor, General Purpose, size 1210, X5R, 47uF, 16V; Manufacturer Part Number: 885012109011; Manufacturer: Wurth Elektronik; Rated Voltage: 16VDC; Isolation Resistance: >=0.002GOhm; Capacitance Tolerance: +/-20%; Technical Reference: X5R1210476M016DFCT10000; ComponentLink1Description: Manufacturer; ComponentLink1URL: http://www.we-online.de; ComponentLink2Description: Datasheet; ComponentLink2URL: https://www.we-online.com/catalog/datasheet/885012109011.pdf; Operating Temperature: -55 to +85degC; Packaging: Tape and Reel; Published Date: May 2020; Ceramic Type: X5R; Dissipation Factor: =<10%; Height: 2.5mm; Mounting Technology: SMT; Size: 1210; Capacitance: 47uF
footprint WCAP-CSGP_1210_H=2.5mm
pins: 1, 2

## 885012109012
designator C?, comment 4.7uF, 25V
WCAP-CSGP Multilayer Ceramic Chip Capacitor, General Purpose, size 1210, X5R, 4.7uF, 25V; Manufacturer Part Number: 885012109012; Manufacturer: Wurth Elektronik; Rated Voltage: 25VDC; Isolation Resistance: >=0.1GOhm; Capacitance Tolerance: +/-20%; Technical Reference: X5R1210475M025DFCT10000; ComponentLink1Description: Manufacturer; ComponentLink1URL: http://www.we-online.de; ComponentLink2Description: Datasheet; ComponentLink2URL: https://www.we-online.com/catalog/datasheet/885012109012.pdf; Operating Temperature: -55 to +85degC; Packaging: Tape and Reel; Published Date: May 2020; Ceramic Type: X5R; Dissipation Factor: =<3.5%; Height: 2mm; Mounting Technology: SMT; Size: 1210; Capacitance: 4.7uF
footprint WCAP-CSGP_1210_H=2mm
pins: 1, 2

## 885012109013
designator C?, comment 10uF, 25V
WCAP-CSGP Multilayer Ceramic Chip Capacitor, General Purpose, size 1210, X5R, 10uF, 25V; Manufacturer Part Number: 885012109013; Manufacturer: Wurth Elektronik; Rated Voltage: 25VDC; Isolation Resistance: >=0.01GOhm; Capacitance Tolerance: +/-20%; Technical Reference: X5R1210106M025DFCT10000; ComponentLink1Description: Manufacturer; ComponentLink1URL: http://www.we-online.de; ComponentLink2Description: Datasheet; ComponentLink2URL: https://www.we-online.com/catalog/datasheet/885012109013.pdf; Operating Temperature: -55 to +85degC; Packaging: Tape and Reel; Published Date: May 2020; Ceramic Type: X5R; Dissipation Factor: =<10%; Height: 2mm; Mounting Technology: SMT; Size: 1210; Capacitance: 10uF
footprint WCAP-CSGP_1210_H=2mm
pins: 1, 2

## 885012109014
designator C?, comment 22uF, 25V
WCAP-CSGP Multilayer Ceramic Chip Capacitor, General Purpose, size 1210, X5R, 22uF, 25V; Manufacturer Part Number: 885012109014; Manufacturer: Wurth Elektronik; Rated Voltage: 25VDC; Isolation Resistance: >=0.005GOhm; Capacitance Tolerance: +/-20%; Technical Reference: X5R1210226M025DFCT10000; ComponentLink1Description: Manufacturer; ComponentLink1URL: http://www.we-online.de; ComponentLink2Description: Datasheet; ComponentLink2URL: https://www.we-online.com/catalog/datasheet/885012109014.pdf; Operating Temperature: -55 to +85degC; Packaging: Tape and Reel; Published Date: May 2020; Ceramic Type: X5R; Dissipation Factor: =<5%; Height: 2.5mm; Mounting Technology: SMT; Size: 1210; Capacitance: 22uF
footprint WCAP-CSGP_1210_H=2.5mm
pins: 1, 2